# EAGLE library part RASPBERRY-PI-MODEL-B-PLUS (library raspberry-pi)
Raspberry Pi Model B Plus
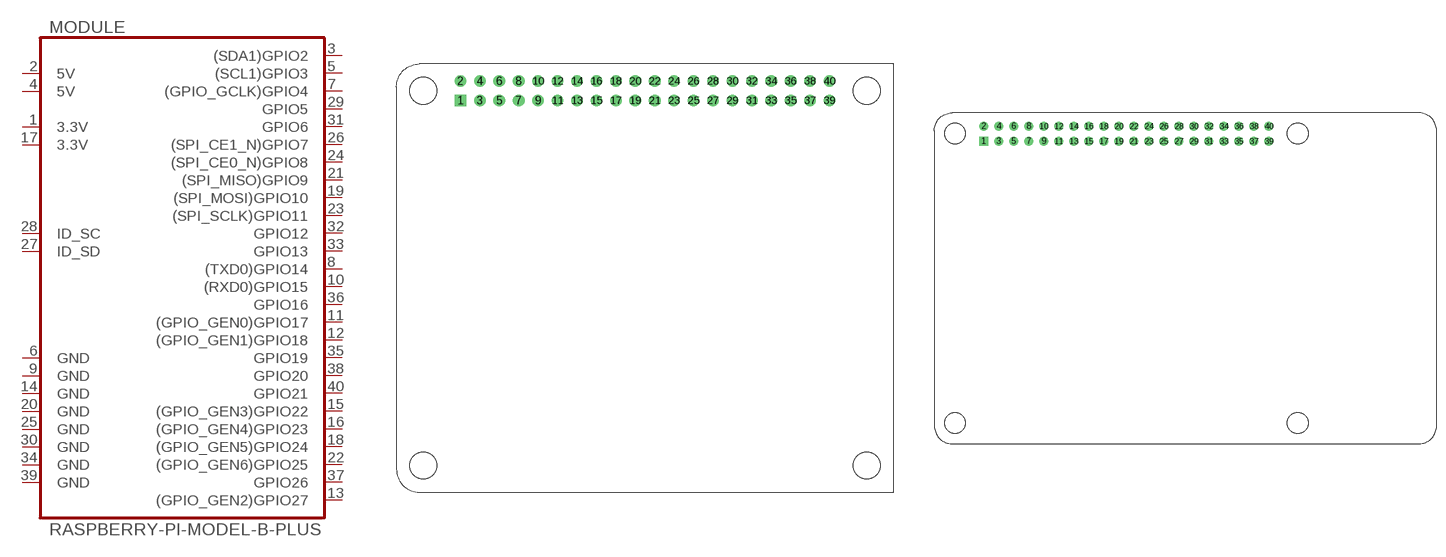
[diagram p1: symbol with the pads of RASPBERRY-PI-MODEL-B-PLUS-SHORT; footprints RASPBERRY-PI-MODEL-B-PLUS-SHORT, RASPBERRY-PI-MODEL-B-PLUS-FULL]

Designator prefix MODULE

## RASPBERRY-PI-MODEL-B-PLUS-SHORT  [RASPBERRY-PI-MODEL-B-PLUS-SHORT]
1  3.3V  pas
2  5V  pas
3  (SDA1)GPIO2  pas
4  5V  pas
5  (SCL1)GPIO3  pas
6  GND  pas
7  (GPIO_GCLK)GPIO4  pas
8  (TXD0)GPIO14  pas
9  GND  pas
10  (RXD0)GPIO15  pas
11  (GPIO_GEN0)GPIO17  pas
12  (GPIO_GEN1)GPIO18  pas
13  (GPIO_GEN2)GPIO27  pas
14  GND  pas
15  (GPIO_GEN3)GPIO22  pas
16  (GPIO_GEN4)GPIO23  pas
17  3.3V  pas
18  (GPIO_GEN5)GPIO24  pas
19  (SPI_MOSI)GPIO10  pas
20  GND  pas
21  (SPI_MISO)GPIO9  pas
22  (GPIO_GEN6)GPIO25  pas
23  (SPI_SCLK)GPIO11  pas
24  (SPI_CE0_N)GPIO8  pas
25  GND  pas
26  (SPI_CE1_N)GPIO7  pas
27  ID_SD  pas
28  ID_SC  pas
29  GPIO5  pas
30  GND  pas
31  GPIO6  pas
32  GPIO12  pas
33  GPIO13  pas
34  GND  pas
35  GPIO19  pas
36  GPIO16  pas
37  GPIO26  pas
38  GPIO20  pas
39  GND  pas
40  GPIO21  pas

## RASPBERRY-PI-MODEL-B-PLUS-FULL  [RASPBERRY-PI-MODEL-B-PLUS-FULL]
Pads as for RASPBERRY-PI-MODEL-B-PLUS-SHORT

## RASPBERRY-PI-MODEL-B-PLUS-PINHEADER  [RASPBERRY-PI-MODEL-B-PLUS-PINHEADER]
Pads as for RASPBERRY-PI-MODEL-B-PLUS-SHORT

## RASPBERRY-PI-MODEL-B-PLUS-PINHEADER/90  [RASPBERRY-PI-MODEL-B-PLUS-PINHEADER/90]
Pads as for RASPBERRY-PI-MODEL-B-PLUS-SHORT

## Footprint RASPBERRY-PI-MODEL-B-PLUS-SHORT (pad centres in mm)
drill 1.016 square: 1 8.37,51.23
drill 1.016: 2 8.37,53.77; 3 10.91,51.23; 4 10.91,53.77; 5 13.45,51.23; 6 13.45,53.77; 7 15.99,51.23; 8 15.99,53.77; 9 18.53,51.23; 10 18.53,53.77; 11 21.07,51.23; 12 21.07,53.77; 13 23.61,51.23; 14 23.61,53.77; 15 26.15,51.23; 16 26.15,53.77; 17 28.69,51.23; 18 28.69,53.77; 19 31.23,51.23; 20 31.23,53.77; 21 33.77,51.23; 22 33.77,53.77; 23 36.31,51.23; 24 36.31,53.77; 25 38.85,51.23; 26 38.85,53.77; 27 41.39,51.23; 28 41.39,53.77; 29 43.93,51.23; 30 43.93,53.77; 31 46.47,51.23; 32 46.47,53.77; 33 49.01,51.23; 34 49.01,53.77; 35 51.55,51.23; 36 51.55,53.77; 37 54.09,51.23; 38 54.09,53.77; 39 56.63,51.23; 40 56.63,53.77
hole 3.5 at 3.5,52.5
hole 3.5 at 3.5,3.5
hole 3.5 at 61.5,3.5
hole 3.5 at 61.5,52.5

## Footprint RASPBERRY-PI-MODEL-B-PLUS-FULL (pad centres in mm)
drill 1.016 square: 1 8.37,51.23
drill 1.016: 2 8.37,53.77; 3 10.91,51.23; 4 10.91,53.77; 5 13.45,51.23; 6 13.45,53.77; 7 15.99,51.23; 8 15.99,53.77; 9 18.53,51.23; 10 18.53,53.77; 11 21.07,51.23; 12 21.07,53.77; 13 23.61,51.23; 14 23.61,53.77; 15 26.15,51.23; 16 26.15,53.77; 17 28.69,51.23; 18 28.69,53.77; 19 31.23,51.23; 20 31.23,53.77; 21 33.77,51.23; 22 33.77,53.77; 23 36.31,51.23; 24 36.31,53.77; 25 38.85,51.23; 26 38.85,53.77; 27 41.39,51.23; 28 41.39,53.77; 29 43.93,51.23; 30 43.93,53.77; 31 46.47,51.23; 32 46.47,53.77; 33 49.01,51.23; 34 49.01,53.77; 35 51.55,51.23; 36 51.55,53.77; 37 54.09,51.23; 38 54.09,53.77; 39 56.63,51.23; 40 56.63,53.77
hole 3.5 at 3.5,52.5
hole 3.5 at 3.5,3.5
hole 3.5 at 61.5,3.5
hole 3.5 at 61.5,52.5

## Footprint RASPBERRY-PI-MODEL-B-PLUS-PINHEADER (pad centres in mm)
drill 1.016 octagon: 1 -24.13,-1.27; 2 -24.13,1.27; 3 -21.59,-1.27; 4 -21.59,1.27; 5 -19.05,-1.27; 6 -19.05,1.27; 7 -16.51,-1.27; 8 -16.51,1.27; 9 -13.97,-1.27; 10 -13.97,1.27; 11 -11.43,-1.27; 12 -11.43,1.27; 13 -8.89,-1.27; 14 -8.89,1.27; 15 -6.35,-1.27; 16 -6.35,1.27; 17 -3.81,-1.27; 18 -3.81,1.27; 19 -1.27,-1.27; 20 -1.27,1.27; 21 1.27,-1.27; 22 1.27,1.27; 23 3.81,-1.27; 24 3.81,1.27; 25 6.35,-1.27; 26 6.35,1.27; 27 8.89,-1.27; 28 8.89,1.27; 29 11.43,-1.27; 30 11.43,1.27; 31 13.97,-1.27; 32 13.97,1.27; 33 16.51,-1.27; 34 16.51,1.27; 35 19.05,-1.27; 36 19.05,1.27; 37 21.59,-1.27; 38 21.59,1.27; 39 24.13,-1.27; 40 24.13,1.27

## Footprint RASPBERRY-PI-MODEL-B-PLUS-PINHEADER/90 (pad centres in mm)
drill 1.016 octagon: 1 -24.13,-6.35; 2 -24.13,-3.81; 3 -21.59,-6.35; 4 -21.59,-3.81; 5 -19.05,-6.35; 6 -19.05,-3.81; 7 -16.51,-6.35; 8 -16.51,-3.81; 9 -13.97,-6.35; 10 -13.97,-3.81; 11 -11.43,-6.35; 12 -11.43,-3.81; 13 -8.89,-6.35; 14 -8.89,-3.81; 15 -6.35,-6.35; 16 -6.35,-3.81; 17 -3.81,-6.35; 18 -3.81,-3.81; 19 -1.27,-6.35; 20 -1.27,-3.81; 21 1.27,-6.35; 22 1.27,-3.81; 23 3.81,-6.35; 24 3.81,-3.81; 25 6.35,-6.35; 26 6.35,-3.81; 27 8.89,-6.35; 28 8.89,-3.81; 29 11.43,-6.35; 30 11.43,-3.81; 31 13.97,-6.35; 32 13.97,-3.81; 33 16.51,-6.35; 34 16.51,-3.81; 35 19.05,-6.35; 36 19.05,-3.81; 37 21.59,-6.35; 38 21.59,-3.81; 39 24.13,-6.35; 40 24.13,-3.81